# EAGLE library part LM3S1968 (library packages(ti))
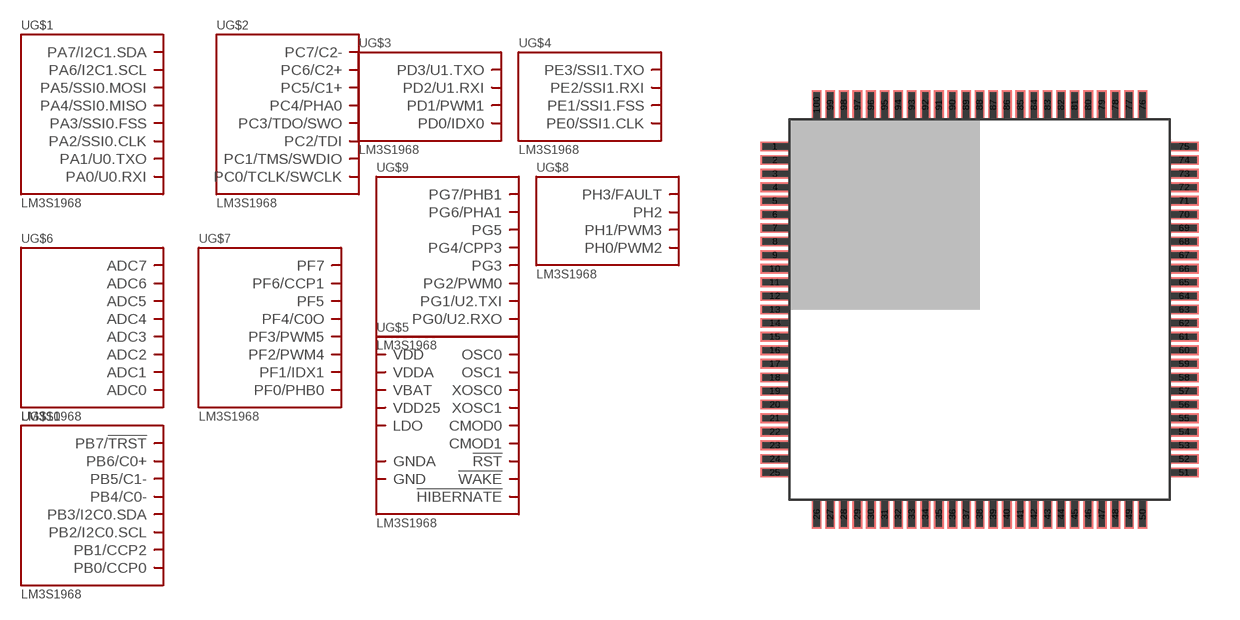
[diagram p2: symbol with the pads of LQFP.100; footprint LQFP.100]

Designator prefix U; gates G$1=LM3S1968.A G$2=LM3S1968.C G$3=LM3S1968.D G$4=LM3S1968.E G$5=LM3S1968 G$6=LM3S1968.ADC G$7=LM3S1968.F G$8=LM3S1968.H G$9=LM3S1968.G G$10=LM3S1968.B

## LM3S1968.LQFP  [LQFP.100]
1  G$6:ADC0
2  G$6:ADC1
3  G$5:VDDA
4  G$5:GNDA
5  G$6:ADC2
6  G$6:ADC3
7  G$5:LDO
8  G$5:VDD
9  G$5:GND
10  G$3:PD0/IDX0
11  G$3:PD1/PWM1
12  G$3:PD2/U1.RXI
13  G$3:PD3/U1.TXO
14  G$5:VDD25
15  G$5:GND
16  G$9:PG3
17  G$9:PG2/PWM0
18  G$9:PG1/U2.TXI
19  G$9:PG0/U2.RXO
20  G$5:VDD
21  G$5:GND
22  G$2:PC7/C2-
23  G$2:PC6/C2+
24  G$2:PC5/C1+
25  G$2:PC4/PHA0
26  G$1:PA0/U0.RXI
27  G$1:PA1/U0.TXO
28  G$1:PA2/SSI0.CLK
29  G$1:PA3/SSI0.FSS
30  G$1:PA4/SSI0.MISO
31  G$1:PA5/SSI0.MOSI
32  G$5:VDD
33  G$5:GND
34  G$1:PA6/I2C1.SCL
35  G$1:PA7/I2C1.SDA
36  G$9:PG7/PHB1
37  G$9:PG6/PHA1
38  G$5:VDD25
39  G$5:GND
40  G$9:PG5
41  G$9:PG4/CPP3
42  G$7:PF7
43  G$7:PF6/CCP1
44  G$5:VDD
45  G$5:GND
46  G$7:PF5
47  G$7:PF0/PHB0
48  G$5:OSC0
49  G$5:OSC1
50  G$5:!WAKE!
51  G$5:!HIBERNATE!
52  G$5:XOSC0
53  G$5:XOSC1
54  G$5:GND
55  G$5:VBAT
56  G$5:VDD
57  G$5:GND
58  G$7:PF4/C0O
59  G$7:PF3/PWM5
60  G$7:PF2/PWM4
61  G$7:PF1/IDX1
62  G$5:VDD25
63  G$5:GND
64  G$5:!RST!
65  G$5:CMOD0
66  G$10:PB0/CCP0
67  G$10:PB1/CCP2
68  G$5:VDD
69  G$5:GND
70  G$10:PB2/I2C0.SCL
71  G$10:PB3/I2C0.SDA
72  G$4:PE0/SSI1.CLK
73  G$4:PE1/SSI1.FSS
74  G$4:PE2/SSI1.RXI
75  G$4:PE3/SSI1.TXO
76  G$5:CMOD1
77  G$2:PC3/TDO/SWO
78  G$2:PC2/TDI
79  G$2:PC1/TMS/SWDIO
80  G$2:PC0/TCLK/SWCLK
81  G$5:VDD
82  G$5:GND
83  G$8:PH3/FAULT
84  G$8:PH2
85  G$8:PH1/PWM3
86  G$8:PH0/PWM2
87  G$5:GND
88  G$5:VDD25
89  G$10:PB7/!TRST!
90  G$10:PB6/C0+
91  G$10:PB5/C1-
92  G$10:PB4/C0-
93  G$5:VDD
94  G$5:GND
95  G$6:ADC7
96  G$6:ADC6
97  G$5:GNDA
98  G$5:VDDA
99  G$6:ADC5
100  G$6:ADC4

## Footprint LQFP.100 (pad centres in mm)
smd 1.07 x 0.36: 1 -7.535,6; 2 -7.535,5.5; 3 -7.535,5; 4 -7.535,4.5; 5 -7.535,4; 6 -7.535,3.5; 7 -7.535,3; 8 -7.535,2.5; 9 -7.535,2; 10 -7.535,1.5; 11 -7.535,1; 12 -7.535,0.5; 13 -7.535,0; 14 -7.535,-0.5; 15 -7.535,-1; 16 -7.535,-1.5; 17 -7.535,-2; 18 -7.535,-2.5; 19 -7.535,-3; 20 -7.535,-3.5; 21 -7.535,-4; 22 -7.535,-4.5; 23 -7.535,-5; 24 -7.535,-5.5; 25 -7.535,-6; 51 7.535,-6; 52 7.535,-5.5; 53 7.535,-5; 54 7.535,-4.5; 55 7.535,-4; 56 7.535,-3.5; 57 7.535,-3; 58 7.535,-2.5; 59 7.535,-2; 60 7.535,-1.5; 61 7.535,-1; 62 7.535,-0.5; 63 7.535,0; 64 7.535,0.5; 65 7.535,1; 66 7.535,1.5; 67 7.535,2; 68 7.535,2.5; 69 7.535,3; 70 7.535,3.5; 71 7.535,4; 72 7.535,4.5; 73 7.535,5; 74 7.535,5.5; 75 7.535,6
smd 0.36 x 1.07: 26 -6,-7.535; 27 -5.5,-7.535; 28 -5,-7.535; 29 -4.5,-7.535; 30 -4,-7.535; 31 -3.5,-7.535; 32 -3,-7.535; 33 -2.5,-7.535; 34 -2,-7.535; 35 -1.5,-7.535; 36 -1,-7.535; 37 -0.5,-7.535; 38 0,-7.535; 39 0.5,-7.535; 40 1,-7.535; 41 1.5,-7.535; 42 2,-7.535; 43 2.5,-7.535; 44 3,-7.535; 45 3.5,-7.535; 46 4,-7.535; 47 4.5,-7.535; 48 5,-7.535; 49 5.5,-7.535; 50 6,-7.535; 76 6,7.535; 77 5.5,7.535; 78 5,7.535; 79 4.5,7.535; 80 4,7.535; 81 3.5,7.535; 82 3,7.535; 83 2.5,7.535; 84 2,7.535; 85 1.5,7.535; 86 1,7.535; 87 0.5,7.535; 88 0,7.535; 89 -0.5,7.535; 90 -1,7.535; 91 -1.5,7.535; 92 -2,7.535; 93 -2.5,7.535; 94 -3,7.535; 95 -3.5,7.535; 96 -4,7.535; 97 -4.5,7.535; 98 -5,7.535; 99 -5.5,7.535; 100 -6,7.535